# Altium footprint library Capacitor_SMD.PcbLib: 25 footprints (part 1 of 2)
Each footprint in its own frame and in the unit in brackets; x right, y up, seen from the top. Pads: shape width x height; smd on the part's side, far side on the other; paste and mask are expansions set on the pad; w line width, h text height; cw(c..) or ccw(c..) is an arc to the next point about the centre after c.
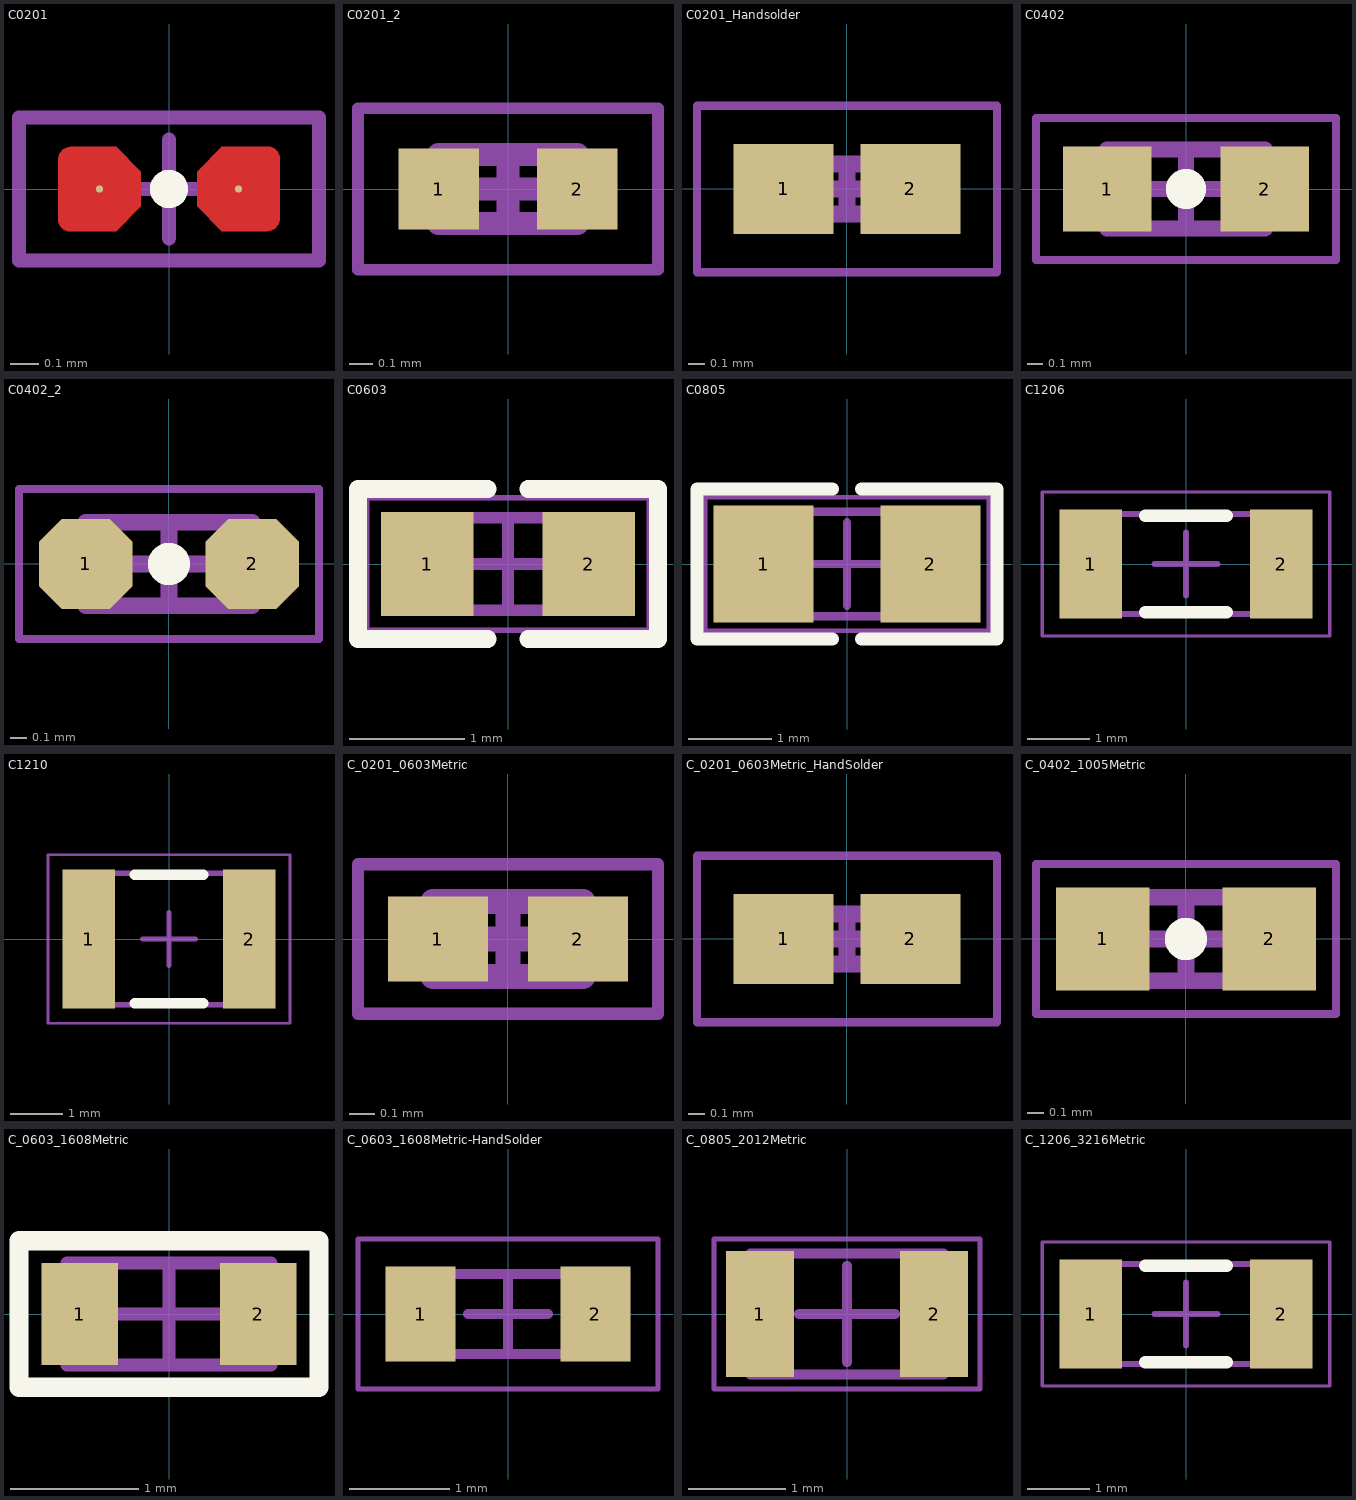
[diagram p0: the footprints below, top view; thin cyan lines are the x and y axes]

## C0201 [mil] "Chip Capacitor, 2-Leads, Body 0.60x0.30mm, IPC High Density"
height 11.81
pads (2):
  round 1 smd paste-19.68 mask+0: 1(-9.73,0)
  round 1 smd paste+0 mask+0: 2(9.73,0)
Top Layer:
  region: -9.85,5.91 -13.85,5.91 -14.2,5.86 -14.81,5.53 -15.27,5.01 -15.52,4.35 -15.52,4 -15.52,-4.5 -15.47,-4.8 -15.17,-5.32 -14.71,-5.7 -14.15,-5.91 -13.85,-5.91 -9.85,-5.91 -7.4,-5.91 -3.94,-2.45 -3.94,2.45 -7.4,5.91
  region: 9.85,-5.91 13.85,-5.91 14.2,-5.86 14.81,-5.53 15.27,-5.01 15.52,-4.35 15.52,-4 15.52,4.5 15.47,4.8 15.17,5.32 14.71,5.7 14.15,5.91 13.85,5.91 9.85,5.91 7.4,5.91 3.94,2.45 3.94,-2.45 7.4,-5.91
Top Overlay:
  circle w3: c0,0 r1.18
Top Paste:
  region: -9.85,5.91 -13.85,5.91 -14.2,5.86 -14.81,5.53 -15.27,5.01 -15.52,4.35 -15.52,4 -15.52,-4.5 -15.47,-4.8 -15.17,-5.32 -14.71,-5.7 -14.15,-5.91 -13.85,-5.91 -9.85,-5.91 -7.4,-5.91 -3.94,-2.45 -3.94,2.45 -7.4,5.91
  region: 9.85,-5.91 13.85,-5.91 14.2,-5.86 14.81,-5.53 15.27,-5.01 15.52,-4.35 15.52,-4 15.52,4.5 15.47,4.8 15.17,5.32 14.71,5.7 14.15,5.91 13.85,5.91 9.85,5.91 7.4,5.91 3.94,2.45 3.94,-2.45 7.4,-5.91
  region: 9.85,-5.91 13.85,-5.91 14.2,-5.86 14.81,-5.53 15.27,-5.01 15.52,-4.35 15.52,-4 15.52,4.5 15.47,4.8 15.17,5.32 14.71,5.7 14.15,5.91 13.85,5.91 9.85,5.91 7.4,5.91 3.94,2.45 3.94,-2.45 7.4,-5.91
  region: -9.85,5.91 -13.85,5.91 -14.2,5.86 -14.81,5.53 -15.27,5.01 -15.52,4.35 -15.52,4 -15.52,-4.5 -15.47,-4.8 -15.17,-5.32 -14.71,-5.7 -14.15,-5.91 -13.85,-5.91 -9.85,-5.91 -7.4,-5.91 -3.94,-2.45 -3.94,2.45 -7.4,5.91
Top Solder:
  region: 9.85,-5.91 13.85,-5.91 14.2,-5.86 14.81,-5.53 15.27,-5.01 15.52,-4.35 15.52,-4 15.52,4.5 15.47,4.8 15.17,5.32 14.71,5.7 14.15,5.91 13.85,5.91 9.85,5.91 7.4,5.91 3.94,2.45 3.94,-2.45 7.4,-5.91
  region: 9.85,-5.91 13.85,-5.91 14.2,-5.86 14.81,-5.53 15.27,-5.01 15.52,-4.35 15.52,-4 15.52,4.5 15.47,4.8 15.17,5.32 14.71,5.7 14.15,5.91 13.85,5.91 9.85,5.91 7.4,5.91 3.94,2.45 3.94,-2.45 7.4,-5.91
  region: -9.85,5.91 -13.85,5.91 -14.2,5.86 -14.81,5.53 -15.27,5.01 -15.52,4.35 -15.52,4 -15.52,-4.5 -15.47,-4.8 -15.17,-5.32 -14.71,-5.7 -14.15,-5.91 -13.85,-5.91 -9.85,-5.91 -7.4,-5.91 -3.94,-2.45 -3.94,2.45 -7.4,5.91
  region: -9.85,5.91 -13.85,5.91 -14.2,5.86 -14.81,5.53 -15.27,5.01 -15.52,4.35 -15.52,4 -15.52,-4.5 -15.47,-4.8 -15.17,-5.32 -14.71,-5.7 -14.15,-5.91 -13.85,-5.91 -9.85,-5.91 -7.4,-5.91 -3.94,-2.45 -3.94,2.45 -7.4,5.91
Mechanical 15:
  lines w1.97: -21,-10 21,-10 21,10 -21,10 -21,-10
  lines w2: -6.89,0 6.89,0 ; 0,-6.89 0,6.89
3D body "CAPC0603X03L.step": height 11.81, standoff 0, extent -11.81,-5.91 11.81,5.91

## C0201_2 [mm]
pads (2):
  rect 0.35x0.35 smd: 1(-0.3,0) 2(0.3,0)
Mechanical 13:
  lines w0.1: -0.3,-0.15 -0.3,0.15 0.3,0.15 0.3,-0.15 -0.3,-0.15
Mechanical 15:
  lines w0.05: -0.65,-0.35 -0.65,0.35 0.65,0.35 0.65,-0.35 -0.65,-0.35
  lines w0.1: -0.15,0 0.15,0 ; 0,-0.15 0,0.15
3D body "CAPC0603X03L.step": height 0.3, standoff 0, extent -0.3,-0.15 0.3,0.15

## C0201_Handsolder [mm] "Chip Capacitor, 2-Leads, Body 0.60x0.30mm, IPC Low Density"
height 0.3
pads (2):
  rect 0.6x0.54 smd: 1(-0.38,0) 2(0.38,0)
Mechanical 13:
  lines w0.1: -0.3,-0.15 0.3,-0.15 0.3,0.15 -0.3,0.15 -0.3,-0.15
Mechanical 15:
  lines w0.05: -0.9,-0.5 0.9,-0.5 0.9,0.5 -0.9,0.5 -0.9,-0.5
  lines w0.1: -0.15,0 0.15,0 ; 0,-0.15 0,0.15
3D body "CAPC0603X03M.step": height 0.3, standoff 0, extent -0.3,-0.15 0.3,0.15

## C0402 [mm] "Chip Capacitor, 2-Leads, Body 1.00x0.50mm, IPC Medium Density"
height 0.5
pads (2):
  rect 0.56x0.54 smd: 1(-0.5,0) 2(0.5,0)
Top Overlay:
  circle w0.152: c0,0 r0.051
Mechanical 13:
  lines w0.1: -0.5,-0.25 0.5,-0.25 0.5,0.25 -0.5,0.25 -0.5,-0.25
Mechanical 15:
  lines w0.05: -0.95,-0.45 0.95,-0.45 0.95,0.45 -0.95,0.45 -0.95,-0.45
  lines w0.1: -0.25,0 0.25,0 ; 0,-0.25 0,0.25
3D body: height 0.5, standoff 0, extent 0.35,-0.25 0.5,0.25
3D body: height 0.5, standoff 0, extent -0.5,-0.25 -0.35,0.25
3D body: height 0.5, standoff 0, extent -0.35,-0.25 0.35,0.25

## C0402_2 [mm] "Chip Capacitor, 2-Leads, Body 1.00x0.50mm, IPC Medium Density"
height 0.5
pads (2):
  oct 0.56x0.54 smd mask+0.051: 1(-0.5,0) 2(0.5,0)
Top Overlay:
  circle w0.152: c0,0 r0.051
Mechanical 13:
  lines w0.1: -0.5,-0.25 0.5,-0.25 0.5,0.25 -0.5,0.25 -0.5,-0.25
Mechanical 15:
  lines w0.05: -0.9,-0.45 0.9,-0.45 0.9,0.45 -0.9,0.45 -0.9,-0.45
  lines w0.1: -0.25,0 0.25,0 ; 0,-0.25 0,0.25
3D body: height 0.5, standoff 0, extent 0.35,-0.25 0.5,0.25
3D body: height 0.5, standoff 0, extent -0.5,-0.25 -0.35,0.25
3D body: height 0.5, standoff 0, extent -0.35,-0.25 0.35,0.25

## C0603 [mm] "Chip Capacitor, 2-Leads, Body 1.60x0.80mm, IPC Medium Density"
height 0.8
pads (2):
  rect 0.8x0.9 smd: 1(-0.7,0) 2(0.7,0)
Top Overlay:
  lines w0.152: -0.175,-0.65 -1.3,-0.65 -1.3,0.65 -0.175,0.65 ; 0.175,-0.65 1.3,-0.65 1.3,0.65 0.175,0.65
Mechanical 13:
  lines w0.1: -0.8,-0.4 0.8,-0.4 0.8,0.4 -0.8,0.4 -0.8,-0.4
Mechanical 15:
  lines w0.05: -1.225,-0.575 -1.225,0.575 1.225,0.575 1.225,-0.575 -1.225,-0.575
  lines w0.1: -0.4,0 0.4,0 ; 0,-0.4 0,0.4
3D body: height 0.8, standoff 0, extent 0.6,-0.4 0.8,0.4
3D body: height 0.8, standoff 0, extent -0.8,-0.4 -0.6,0.4
3D body: height 0.8, standoff 0, extent -0.6,-0.4 0.6,0.4

## C0805 [mm] "Chip Capacitor, 2-Leads, Body 2.00x1.25mm, IPC Medium Density"
height 1.25
pads (2):
  rect 1.2x1.4 smd: 1(-1,0) 2(1,0)
Top Overlay:
  lines w0.152: -0.175,-0.9 -1.8,-0.9 -1.8,0.9 -0.175,0.9 ; 0.175,-0.9 1.8,-0.9 1.8,0.9 0.175,0.9
Mechanical 13:
  lines w0.1: -1,-0.625 -1,0.625 1,0.625 1,-0.625 -1,-0.625
Mechanical 15:
  lines w0.05: -1.7,-0.8 -1.7,0.8 1.7,0.8 1.7,-0.8 -1.7,-0.8
  lines w0.1: -0.5,0 0.5,0 ; 0,-0.5 0,0.5
3D body: height 1.25, standoff 0, extent -0.7,-0.625 0.7,0.625
3D body: height 1.25, standoff 0, extent -1,-0.625 -0.7,0.625
3D body: height 1.25, standoff 0, extent 0.7,-0.625 1,0.625

## C1206 [mm] "Chip Capacitor, 2-Leads, Body 3.20x1.60mm, IPC Medium Density"
height 1.6
pads (2):
  rect 1x1.75 smd: 1(-1.525,0) 2(1.525,0)
Top Overlay:
  lines w0.2: -0.65,-0.775 0.65,-0.775 ; -0.65,0.775 0.65,0.775
Mechanical 13:
  lines w0.1: -1.6,-0.8 -1.6,0.8 1.6,0.8 1.6,-0.8 -1.6,-0.8
Mechanical 15:
  lines w0.05: -2.3,-1.15 -2.3,1.15 2.3,1.15 2.3,-1.15 -2.3,-1.15
  lines w0.1: -0.5,0 0.5,0 ; 0,-0.5 0,0.5
3D body "CAPC3216X16N.step": height 1.6, standoff 0, extent -1.6,-0.8 1.6,0.8

## C1210 [mm] "Chip Capacitor, 2-Leads, Body 3.20x2.50mm, IPC Medium Density"
height 1.6
pads (2):
  rect 1x2.65 smd: 1(-1.525,0) 2(1.525,0)
Top Overlay:
  lines w0.2: -0.65,-1.225 0.65,-1.225 ; -0.65,1.225 0.65,1.225
Mechanical 13:
  lines w0.1: -1.6,-1.25 -1.6,1.25 1.6,1.25 1.6,-1.25 -1.6,-1.25
Mechanical 15:
  lines w0.05: -2.3,-1.6 -2.3,1.6 2.3,1.6 2.3,-1.6 -2.3,-1.6
  lines w0.1: -0.5,0 0.5,0 ; 0,-0.5 0,0.5
3D body: height 1.6, standoff 0, extent -1.1,-1.25 1.1,1.25
3D body: height 1.6, standoff 0, extent -1.6,-1.25 -1.1,1.25
3D body: height 1.6, standoff 0, extent 1.1,-1.25 1.6,1.25

## C_0201_0603Metric [mm] "Chip Capacitor, 2-Leads, Body 0.60x0.30mm, IPC High Density"
height 0.3
pads (2):
  rect 0.4x0.34 smd: 1(-0.28,0) 2(0.28,0)
Mechanical 13:
  lines w0.1: -0.3,-0.15 -0.3,0.15 0.3,0.15 0.3,-0.15 -0.3,-0.15
Mechanical 15:
  lines w0.05: -0.6,-0.3 -0.6,0.3 0.6,0.3 0.6,-0.3 -0.6,-0.3
  lines w0.1: -0.15,0 0.15,0 ; 0,-0.15 0,0.15
3D body "CAPC0603X03L.step": height 0.3, standoff 0, extent -0.3,-0.15 0.3,0.15

## C_0201_0603Metric_HandSolder [mm] "Chip Capacitor, 2-Leads, Body 0.60x0.30mm, IPC Low Density"
height 0.3
pads (2):
  rect 0.6x0.54 smd: 1(-0.38,0) 2(0.38,0)
Mechanical 13:
  lines w0.1: -0.3,-0.15 -0.3,0.15 0.3,0.15 0.3,-0.15 -0.3,-0.15
Mechanical 15:
  lines w0.05: -0.9,-0.5 -0.9,0.5 0.9,0.5 0.9,-0.5 -0.9,-0.5
  lines w0.1: -0.15,0 0.15,0 ; 0,-0.15 0,0.15
3D body "CAPC0603X03M.step": height 0.3, standoff 0, extent -0.3,-0.15 0.3,0.15

## C_0402_1005Metric [mm] "Chip Capacitor, 2-Leads, Body 1.00x0.50mm, IPC Medium Density"
height 0.5
pads (2):
  rect 0.56x0.62 smd: 1(-0.5,0) 2(0.5,0)
Top Overlay:
  circle w0.152: c0,0 r0.051
Mechanical 13:
  lines w0.1: -0.5,-0.25 0.5,-0.25 0.5,0.25 -0.5,0.25 -0.5,-0.25
Mechanical 15:
  lines w0.05: -0.9,-0.45 0.9,-0.45 0.9,0.45 -0.9,0.45 -0.9,-0.45
  lines w0.1: -0.25,0 0.25,0 ; 0,-0.25 0,0.25
3D body: height 0.5, standoff 0, extent 0.35,-0.25 0.5,0.25
3D body: height 0.5, standoff 0, extent -0.5,-0.25 -0.35,0.25
3D body: height 0.5, standoff 0, extent -0.35,-0.25 0.35,0.25

## C_0603_1608Metric [mm] "Chip Capacitor, 2-Leads, Body 1.60x0.80mm, IPC Medium Density"
height 0.8
pads (2):
  rect 0.6x0.8 smd: 1(-0.7,0) 2(0.7,0)
Top Overlay:
  lines w0.152: -1.175,-0.575 -1.175,0.575 1.175,0.575 1.175,-0.575 -1.175,-0.575
Mechanical 13:
  lines w0.1: -0.8,-0.4 0.8,-0.4 0.8,0.4 -0.8,0.4 -0.8,-0.4
Mechanical 15:
  lines w0.05: -1.175,-0.575 1.175,-0.575 1.175,0.575 -1.175,0.575 -1.175,-0.575
  lines w0.1: -0.4,0 0.4,0 ; 0,-0.4 0,0.4
3D body: height 0.8, standoff 0, extent 0.6,-0.4 0.8,0.4
3D body: height 0.8, standoff 0, extent -0.8,-0.4 -0.6,0.4
3D body: height 0.8, standoff 0, extent -0.6,-0.4 0.6,0.4

## C_0603_1608Metric-HandSolder [mm] "Chip Capacitor, 2-Leads, Body 1.60x0.80mm, IPC Medium Density"
height 0.8
pads (2):
  rect 0.7x0.95 smd: 1(-0.875,0) 2(0.875,0)
Mechanical 13:
  lines w0.1: -0.8,-0.4 -0.8,0.4 0.8,0.4 0.8,-0.4 -0.8,-0.4
Mechanical 15:
  lines w0.05: -1.5,-0.75 -1.5,0.75 1.5,0.75 1.5,-0.75 -1.5,-0.75
  lines w0.1: -0.4,0 0.4,0 ; 0,-0.4 0,0.4
3D body: height 0.8, standoff 0, extent -0.6,-0.4 0.6,0.4
3D body: height 0.8, standoff 0, extent -0.8,-0.4 -0.6,0.4
3D body: height 0.8, standoff 0, extent 0.6,-0.4 0.8,0.4

## C_0805_2012Metric [mm] "Chip Capacitor, 2-Leads, Body 2.00x1.25mm, IPC Medium Density"
height 1.25
pads (2):
  rect 0.7x1.3 smd: 1(-0.9,0) 2(0.9,0)
Mechanical 13:
  lines w0.1: -1,-0.625 1,-0.625 1,0.625 -1,0.625 -1,-0.625
Mechanical 15:
  lines w0.05: -1.375,-0.775 1.375,-0.775 1.375,0.775 -1.375,0.775 -1.375,-0.775
  lines w0.1: -0.5,0 0.5,0 ; 0,-0.5 0,0.5
3D body: height 1.25, standoff 0, extent 0.7,-0.625 1,0.625
3D body: height 1.25, standoff 0, extent -1,-0.625 -0.7,0.625
3D body: height 1.25, standoff 0, extent -0.7,-0.625 0.7,0.625

## C_1206_3216Metric [mm] "Chip Capacitor, 2-Leads, Body 3.20x1.60mm, IPC Medium Density"
height 1.6
pads (2):
  rect 1x1.75 smd: 1(-1.525,0) 2(1.525,0)
Top Overlay:
  lines w0.2: -0.65,-0.775 0.65,-0.775 ; -0.65,0.775 0.65,0.775
Mechanical 13:
  lines w0.1: -1.6,-0.8 -1.6,0.8 1.6,0.8 1.6,-0.8 -1.6,-0.8
Mechanical 15:
  lines w0.05: -2.3,-1.15 -2.3,1.15 2.3,1.15 2.3,-1.15 -2.3,-1.15
  lines w0.1: -0.5,0 0.5,0 ; 0,-0.5 0,0.5
3D body "CAPC3216X16N.step": height 1.6, standoff 0, extent -1.6,-0.8 1.6,0.8